# Altium schematic symbol library INA219.SchLib: 1 symbol
Pins are listed as number, name and electrical type; pins without a type are passive.

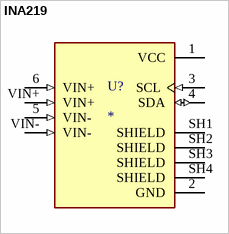
[diagram p0: symbol INA219]

## INA219
designator U?
MF: Adafruit Industries; MP: 904; Package: None; Price: None; Value: *; Availability: Unavailable
footprint MODULE_904
pins: 1 VCC (power), 2 GND (power), 3 SCL (in), 4 SDA (io), 5 VIN- (in), 6 VIN+ (in), SH1 SHIELD, SH2 SHIELD, SH3 SHIELD, SH4 SHIELD, VIN+ (in), VIN- (in)